# Altium footprint library SnapEDApcb.PcbLib: 1 footprints
Each footprint in its own frame and in the unit in brackets; x right, y up, seen from the top. Pads: shape width x height; smd on the part's side, far side on the other; paste and mask are expansions set on the pad; w line width, h text height; cw(c..) or ccw(c..) is an arc to the next point about the centre after c.
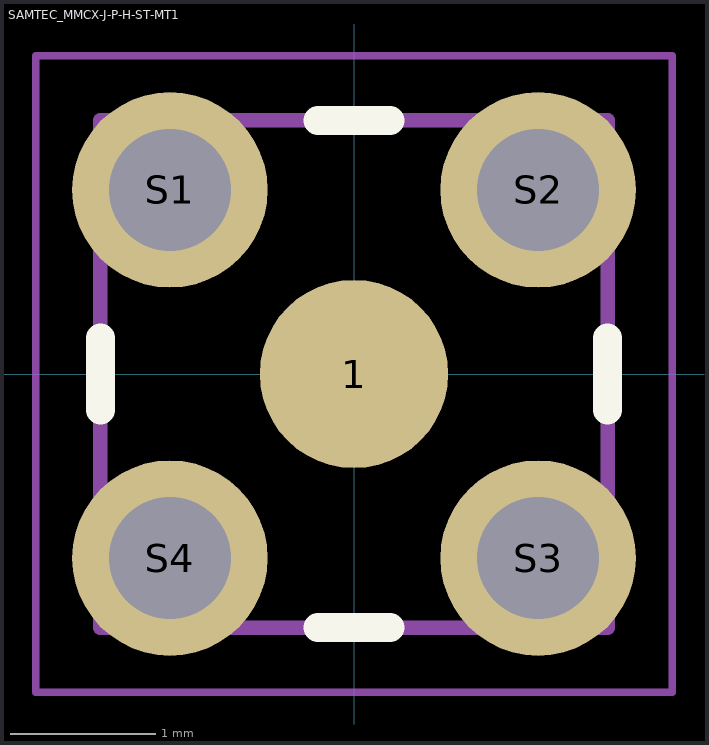
[diagram p0: the footprint, top view; thin cyan lines are the x and y axes]

## SAMTEC_MMCX-J-P-H-ST-MT1 [mm]
pads (5):
  round 1.3 smd: 1(0,0)
  round 1.348 hole 0.84: S1(-1.27,1.27) S2(1.27,1.27) S3(1.27,-1.27) S4(-1.27,-1.27)
Top Overlay:
  lines w0.2: -1.75,-0.25 -1.75,0.25 ; -0.25,-1.75 0.25,-1.75 ; -0.25,1.75 0.25,1.75 ; 1.75,-0.25 1.75,0.25
Mechanical 13:
  lines w0.1: -1.75,-1.75 1.75,-1.75 1.75,1.75 -1.75,1.75 -1.75,-1.75
Mechanical 15:
  lines w0.05: -2.195,-2.195 -2.195,2.195 2.195,2.195 2.195,-2.195 -2.195,-2.195
3D body "MMCX-J-P-H-ST-MT1.stp": height 4.91, standoff -2.49, extent -1.75,-1.75 1.75,1.75